# Altium schematic symbol library TPS62933DRLR.SchLib: 1 symbol
Pins are listed as number, name and electrical type; pins without a type are passive.

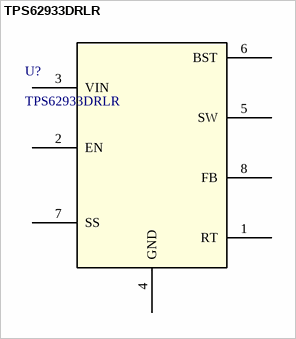
[diagram p0: symbol TPS62933DRLR]

## TPS62933DRLR
designator U?
3.8-V to 30-V, 3-A, 200-kHz to 2.2-MHz, low-IQ synchronous buck converter in SOT-583 package 8-SOT-5X3 -40 to 150; Manufacturer_Name: Texas Instruments; Copyright: Copyright (C) 2025 Ultra Librarian. All rights reserved.; Manufacturer_Part_Number: TPS62933DRLR; RefDes: RefDes; Type: Type
footprint SOT-5X3-8_DRL_TEX
pins: 1 RT, 2 EN, 3 VIN (power), 4 GND (power), 5 SW (power), 6 BST (power), 7 SS, 8 FB